# Altium integrated library BAT760-7 (1).IntLib: 1 symbol
Pins are listed as number, name and electrical type; pins without a type are passive.

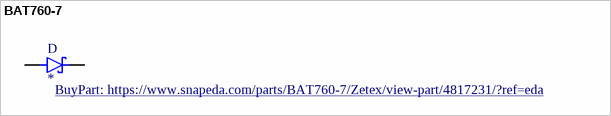
[diagram p0: symbol BAT760-7]

## BAT760-7
designator D
Diode Schottky 30V 1A 2-Pin SOD-323 T/R; MP: BAT760-7; MF: Diodes Zetex; SnapEDA_Link: https://www.snapeda.com/parts/BAT760-7/Zetex/view-part/4817231/?ref=snap; Value: *; DigiKey-Purchase-URL: https://snapeda.com/shop?store=DigiKey&id=4817231; Package: None; Mouser-Purchase-URL: https://snapeda.com/shop?store=Mouser&id=4817231; Price: None; Availability: Good; BuyPart: https://www.snapeda.com/parts/BAT760-7/Zetex/view-part/4817231/?ref=eda
footprint SOD2513X120N
pins: A, C K